# Altium footprint library IND.PcbLib: 20 footprints (part 1 of 2)
Each footprint in its own frame and in the unit in brackets; x right, y up, seen from the top. Pads: shape width x height; smd on the part's side, far side on the other; paste and mask are expansions set on the pad; w line width, h text height; cw(c..) or ccw(c..) is an arc to the next point about the centre after c.
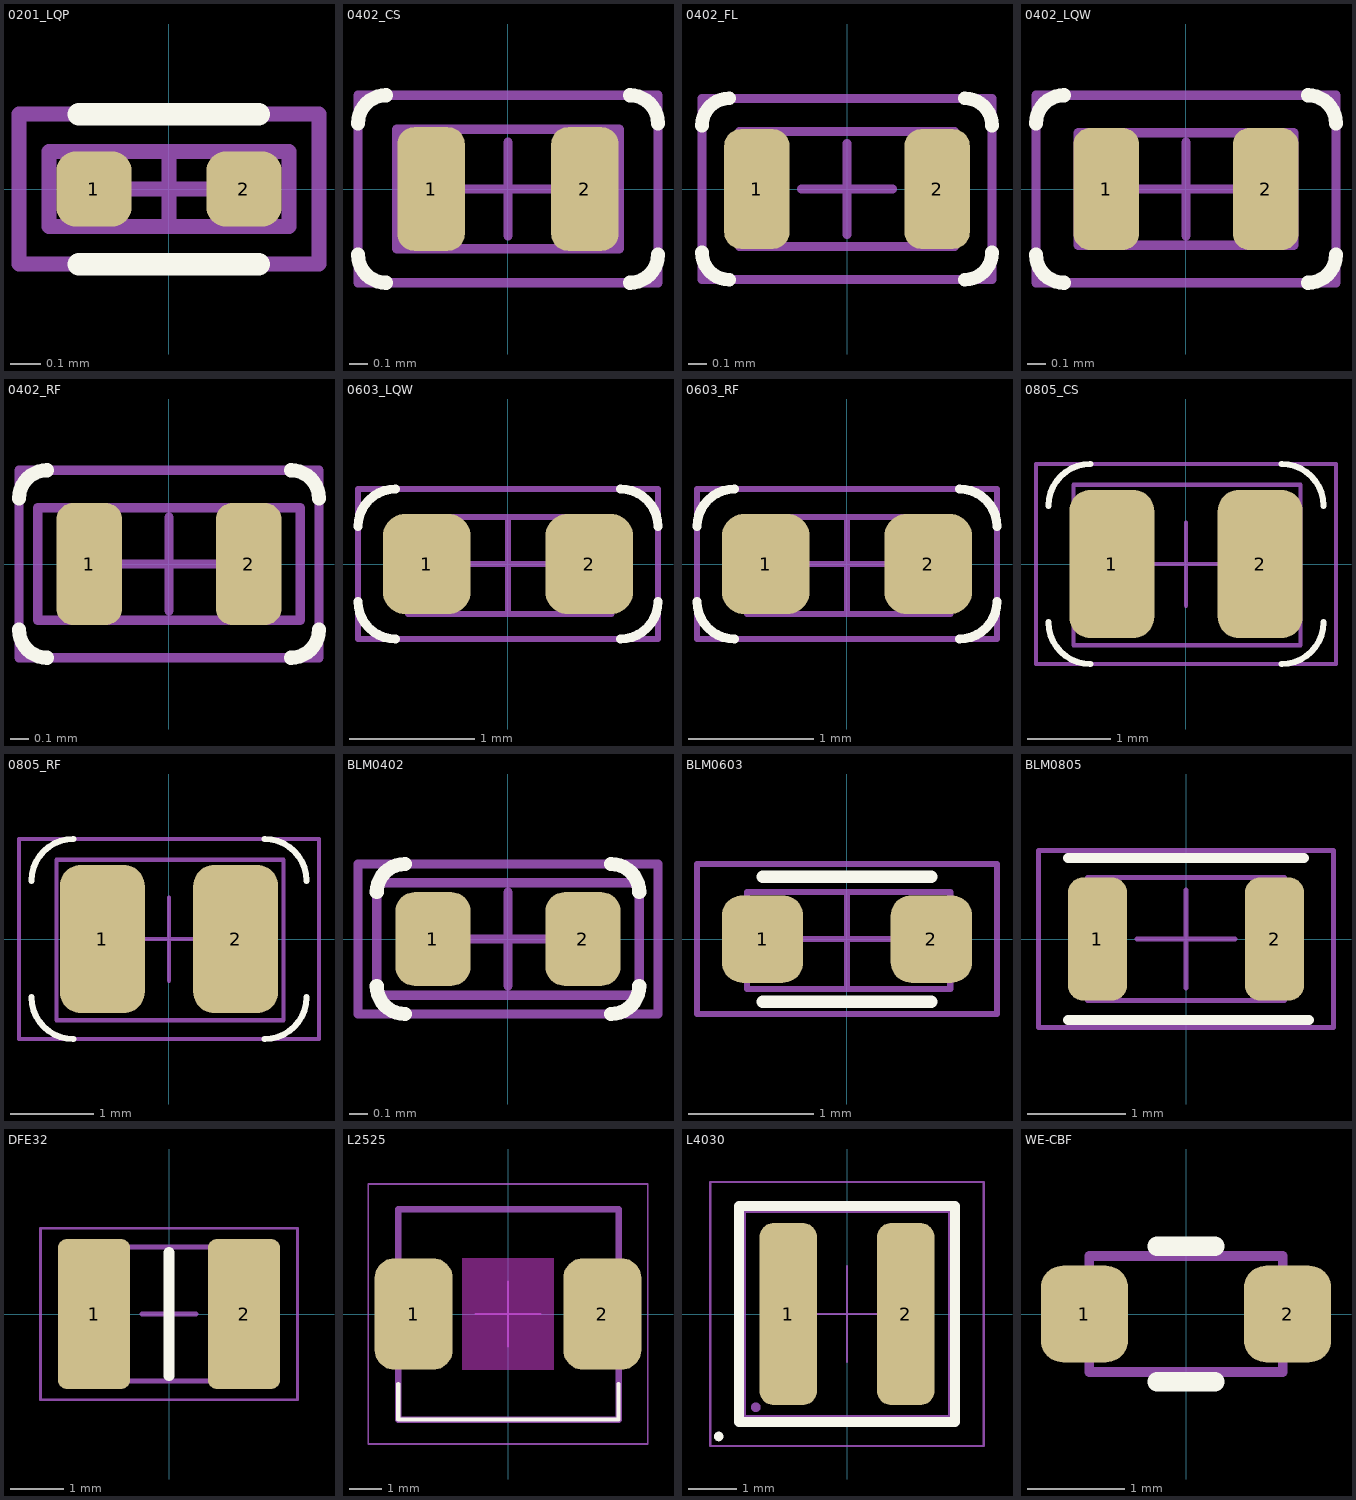
[diagram p0: the footprints below, top view; thin cyan lines are the x and y axes]

## 0201_LQP [mm]
pads (2):
  rrect50% 0.25x0.25 smd paste-0.05: 1(-0.25,0) 2(0.25,0)
Top Overlay:
  lines w0.075: -0.3,-0.25 0.3,-0.25 ; -0.3,0.25 0.3,0.25
Top Assembly:
  lines w0.05: -0.4,-0.125 0.4,-0.125 0.4,0.125 -0.4,0.125 -0.4,-0.125
  text ".Designator" at -0.5,-0.033 h0.1
Top Courtyard:
  lines w0.05: -0.125,0 0.125,0 ; 0,-0.125 0,0.125 ; -0.5,-0.25 0.5,-0.25 0.5,0.25 -0.5,0.25 -0.5,-0.25
3D body "LQP03HQ1N5C02D.STEP": height 0.42, standoff 0, extent -0.3,-0.15 0.3,0.15

## 0402_CS [mm]
pads (2):
  rrect50% 0.36x0.66 smd: 1(-0.41,0) 2(0.41,0)
Top Overlay:
  lines w0.075: -0.8,-0.35 ccw(c-0.65,-0.35) -0.65,-0.5 ; -0.8,0.35 cw(c-0.65,0.35) -0.65,0.5 ; 0.65,-0.5 ccw(c0.65,-0.35) 0.8,-0.35 ; 0.65,0.5 cw(c0.65,0.35) 0.8,0.35
Top Assembly:
  text ".Designator" at -1.5,-0.1 h0.3
Top 3D Body (Mech13):
  lines w0.05: -0.593,-0.318 0.593,-0.318 0.593,0.318 -0.593,0.318 -0.593,-0.318
Top Courtyard:
  lines w0.05: -0.25,0 0.25,0 ; 0,-0.25 0,0.25 ; -0.8,-0.5 0.8,-0.5 0.8,0.5 -0.8,0.5 -0.8,-0.5
3D body "Coilcraft-0402CS.STEP": height 0.65, standoff -0.01, extent -0.593,-0.318 0.593,0.318

## 0402_FL [mm]
pads (2):
  rrect50% 0.36x0.66 smd: 1(-0.497,0) 2(0.497,0)
Top Overlay:
  lines w0.075: -0.8,-0.35 ccw(c-0.65,-0.35) -0.65,-0.5 ; -0.8,0.35 cw(c-0.65,0.35) -0.65,0.5 ; 0.65,-0.5 ccw(c0.65,-0.35) 0.8,-0.35 ; 0.65,0.5 cw(c0.65,0.35) 0.8,0.35
Top Assembly:
  lines w0.05: -0.593,-0.318 0.593,-0.318 0.593,0.318 -0.593,0.318 -0.593,-0.318
  text ".Designator" at -1.5,-0.1 h0.3
Top Courtyard:
  lines w0.05: -0.25,0 0.25,0 ; 0,-0.25 0,0.25 ; -0.8,-0.5 0.8,-0.5 0.8,0.5 -0.8,0.5 -0.8,-0.5
3D body "Coilcraft-0402FL.STEP": height 0.53, standoff -0.02, extent -0.556,-0.36 0.556,0.36

## 0402_LQW [mm]
pads (2):
  rrect50% 0.35x0.65 smd: 1(-0.425,0) 2(0.425,0)
Top Overlay:
  lines w0.075: -0.8,-0.35 ccw(c-0.65,-0.35) -0.65,-0.5 ; -0.8,0.35 cw(c-0.65,0.35) -0.65,0.5 ; 0.65,-0.5 ccw(c0.65,-0.35) 0.8,-0.35 ; 0.65,0.5 cw(c0.65,0.35) 0.8,0.35
Top Assembly:
  lines w0.05: -0.574,-0.299 0.574,-0.299 0.574,0.299 -0.574,0.299 -0.574,-0.299
  text ".Designator" at -1.5,-0.1 h0.3
Top Courtyard:
  lines w0.05: -0.25,0 0.25,0 ; 0,-0.25 0,0.25 ; -0.8,-0.5 0.8,-0.5 0.8,0.5 -0.8,0.5 -0.8,-0.5
3D body "LQW15AN2N3B80D.STEP": height 0.6, standoff 0, extent -0.5,-0.3 0.5,0.3

## 0402_RF [mm]
pads (2):
  rrect50% 0.35x0.65 smd: 1(-0.425,0) 2(0.425,0)
Top Overlay:
  lines w0.075: -0.8,-0.35 ccw(c-0.65,-0.35) -0.65,-0.5 ; -0.8,0.35 cw(c-0.65,0.35) -0.65,0.5 ; 0.65,-0.5 ccw(c0.65,-0.35) 0.8,-0.35 ; 0.65,0.5 cw(c0.65,0.35) 0.8,0.35
Top Assembly:
  lines w0.05: -0.701,-0.3 0.701,-0.3 0.701,0.3 -0.701,0.3 -0.701,-0.3
  text ".Designator" at -1.5,-0.1 h0.3
Top Courtyard:
  lines w0.05: -0.25,0 0.25,0 ; 0,-0.25 0,0.25 ; -0.8,-0.5 0.8,-0.5 0.8,0.5 -0.8,0.5 -0.8,-0.5
3D body "LQW15AN2N3B80D.STEP": height 0.6, standoff 0, extent -0.5,-0.3 0.5,0.3

## 0603_LQW [mm]
height 0.45
pads (2):
  rrect50% 0.7x0.8 smd: 1(-0.65,0) 2(0.65,0)
Top Overlay:
  lines w0.075: -1.2,-0.3 ccw(c-0.9,-0.3) -0.9,-0.6 ; -1.2,0.3 cw(c-0.9,0.3) -0.9,0.6 ; 0.9,-0.6 ccw(c0.9,-0.3) 1.2,-0.3 ; 0.9,0.6 cw(c0.9,0.3) 1.2,0.3
Top Assembly:
  lines w0.05: -0.8,-0.4 -0.8,0.375 0.825,0.375 0.825,-0.4 -0.8,-0.4
  text ".Designator" at -1.5,-0.1 h0.3
Top Courtyard:
  lines w0.05: -0.375,0 0.375,0 ; 0,-0.375 0,0.375 ; -1.2,-0.6 1.2,-0.6 1.2,0.6 -1.2,0.6 -1.2,-0.6
3D body "LQW18CNR33J00D.STEP": height 0.95, standoff 0, extent -0.8,-0.4 0.8,0.4

## 0603_RF [mm]
height 0.45
pads (2):
  rrect50% 0.7x0.8 smd: 1(-0.65,0) 2(0.65,0)
Top Overlay:
  lines w0.075: -1.2,-0.3 ccw(c-0.9,-0.3) -0.9,-0.6 ; -1.2,0.3 cw(c-0.9,0.3) -0.9,0.6 ; 0.9,-0.6 ccw(c0.9,-0.3) 1.2,-0.3 ; 0.9,0.6 cw(c0.9,0.3) 1.2,0.3
Top Assembly:
  lines w0.05: -0.8,-0.4 0.825,-0.4 0.825,0.375 -0.8,0.375 -0.8,-0.4
  text ".Designator" at -0.674,-0.068 h0.3
Top Courtyard:
  lines w0.05: -0.375,0 0.375,0 ; 0,-0.375 0,0.375 ; -1.2,-0.6 1.2,-0.6 1.2,0.6 -1.2,0.6 -1.2,-0.6
3D body "LQW18CNR33J00D.STEP": height 0.95, standoff 0, extent -0.8,-0.4 0.8,0.4

## 0805_CS [mm]
height 0.45
pads (2):
  rrect50% 1.02x1.78 smd: 1(-0.89,0) 2(0.89,0)
Top Overlay:
  lines w0.075: -1.65,-0.7 ccw(c-1.15,-0.7) -1.15,-1.2 ; -1.65,0.7 cw(c-1.15,0.7) -1.15,1.2 ; 1.15,-1.2 ccw(c1.15,-0.7) 1.65,-0.7 ; 1.15,1.2 cw(c1.15,0.7) 1.65,0.7
Top Assembly:
  lines w0.05: -1.35,-0.975 -1.35,0.95 1.375,0.95 1.375,-0.975 -1.35,-0.975
  text ".Designator" at -0.674,-0.068 h0.3
Top Courtyard:
  lines w0.05: -0.5,0 0.5,0 ; 0,-0.5 0,0.5 ; -1.8,-1.2 1.8,-1.2 1.8,1.2 -1.8,1.2 -1.8,-1.2
3D body "Coilcraft-0805CS.STEP": height 1.51, standoff -0.01, extent -1.145,-0.863 1.145,0.863

## 0805_RF [mm]
height 0.45
pads (2):
  rrect50% 1.02x1.78 smd: 1(-0.8,0) 2(0.8,0)
Top Overlay:
  lines w0.075: -1.65,-0.7 ccw(c-1.15,-0.7) -1.15,-1.2 ; -1.65,0.7 cw(c-1.15,0.7) -1.15,1.2 ; 1.15,-1.2 ccw(c1.15,-0.7) 1.65,-0.7 ; 1.15,1.2 cw(c1.15,0.7) 1.65,0.7
Top Assembly:
  lines w0.05: -1.35,-0.975 1.375,-0.975 1.375,0.95 -1.35,0.95 -1.35,-0.975
  text ".Designator" at -0.674,-0.068 h0.3
Top Courtyard:
  lines w0.05: -0.5,0 0.5,0 ; 0,-0.5 0,0.5 ; -1.8,-1.2 1.8,-1.2 1.8,1.2 -1.8,1.2 -1.8,-1.2
3D body "0805CS-241XGLB.STEP": height 1.6, standoff 0, extent -1.143,-0.953 1.143,0.953

## BLM0402 [mm]
pads (2):
  rrect50% 0.4x0.5 smd paste+0: 1(-0.4,0) 2(0.4,0)
Top Overlay:
  lines w0.075: -0.7,-0.25 ccw(c-0.55,-0.25) -0.55,-0.4 ; -0.7,0.25 cw(c-0.55,0.25) -0.55,0.4 ; 0.55,-0.4 ccw(c0.55,-0.25) 0.7,-0.25 ; 0.55,0.4 cw(c0.55,0.25) 0.7,0.25
Top Assembly:
  lines w0.05: -0.701,-0.3 0.701,-0.3 0.701,0.3 -0.701,0.3 -0.701,-0.3
  text ".Designator" at -0.674,-0.068 h0.3
Top Courtyard:
  lines w0.05: -0.25,0 0.25,0 ; 0,-0.25 0,0.25 ; -0.8,-0.4 0.8,-0.4 0.8,0.4 -0.8,0.4 -0.8,-0.4
3D body "BLM15BB470SN1D.STEP": height 0.55, standoff 0, extent -0.5,-0.25 0.5,0.25

## BLM0603 [mm]
height 0.45
pads (2):
  rrect50% 0.65x0.7 smd: 1(-0.675,0) 2(0.675,0)
Top Overlay:
  lines w0.1: -0.675,-0.5 0.675,-0.5 ; -0.675,0.5 0.675,0.5
Top Assembly:
  lines w0.05: -0.8,-0.4 0.825,-0.4 0.825,0.375 -0.8,0.375 -0.8,-0.4
  text ".Designator" at -0.674,-0.068 h0.3
Top Courtyard:
  lines w0.05: -0.375,0 0.375,0 ; 0,-0.375 0,0.375 ; -1.2,-0.6 1.2,-0.6 1.2,0.6 -1.2,0.6 -1.2,-0.6
3D body "BLM18SG121TN1J.STEP": height 0.65, standoff 0, extent -0.8,-0.4 0.8,0.4

## BLM0805 [mm]
height 0.45
pads (2):
  rrect50% 0.6x1.25 smd: 1(-0.9,0) 2(0.9,0)
Top Overlay:
  lines w0.1: -1.2,-0.825 1.25,-0.825 ; -1.2,0.825 1.2,0.825
Top Assembly:
  lines w0.05: -1,-0.625 1,-0.625 1,0.625 -1,0.625 -1,-0.625
  text ".Designator" at -0.674,-0.068 h0.3
Top Courtyard:
  lines w0.05: -0.5,0 0.5,0 ; 0,-0.5 0,0.5 ; -1.5,-0.9 1.5,-0.9 1.5,0.9 -1.5,0.9 -1.5,-0.9
3D body "BLM21AG471SN1D.STEP": height 1.05, standoff 0, extent -1,-0.625 1,0.625

## DFE32 [mm]
pads (2):
  rrect25% 1.35x2.8 smd: 1(-1.4,0) 2(1.4,0)
Top Overlay:
  lines w0.2: 0,-1.15 0,1.15
Top Assembly:
  lines w0.1: -1.6,-1.25 -1.6,1.25 1.6,1.25 1.6,-1.25 -1.6,-1.25
  text ".Designator" at -2.252,-0.226 h1
Top Courtyard:
  lines w0.05: -2.4,-1.6 2.4,-1.6 2.4,1.6 -2.4,1.6 -2.4,-1.6
  lines w0.1: -0.5,0 0,0 ; 0,-0.5 0,0 ; 0,0.5 0,0 ; 0.5,0 0,0
3D body "DFE32CAHR47MR0L.stp": height 2, standoff 0, extent -1.589,-1.256 1.611,1.244

## L2525 [mm]
pads (2):
  rrect50% 2.4x3.429 smd: 1(-2.9,0) 2(2.9,0)
Top Layer keep-out:
  region: -1.4,1.714 -1.4,-1.714 1.4,-1.714 1.4,1.714
Top Overlay:
  lines w0.127: -3.375,-2.15 -3.375,-3.25 3.4,-3.25 3.4,-2.15
Top Assembly:
  lines w0.2: -3.375,-3.25 -3.375,3.225 3.4,3.225 3.4,-3.25 -3.375,-3.25
  text ".Designator" at -3.378,-0.339 h1.5
Top Courtyard:
  lines w0.05: -1,0 1,0 ; 0,-1 0,1 ; -4.3,-4 4.3,-4 4.3,4 -4.3,4 -4.3,-4
3D body "IHLP2525CZER100M01.STEP": height 3, standoff 0, extent -3.43,-3.235 3.43,3.235

## L4030 [mm]
pads (2):
  rrect50% 1.2x3.8 smd: 1(-1.225,0) 2(1.225,0)
Top Overlay:
  circle w0.1: c-2.672,-2.551 r0.05
  lines w0.2: -2.25,-2.25 2.25,-2.25 2.25,2.25 -2.25,2.25 -2.25,-2.25
Top Assembly:
  circle w0.1: c-1.9,-1.942 r0.05
  lines w0.1: -2.15,-2.15 2.15,-2.15 ; -2.15,-2.15 -2.15,2.15 ; -2.15,-2.15 2.15,-2.15 ; -2.15,-2.15 -2.15,2.15 ; -2.15,2.15 2.15,2.15 ; -2.15,2.15 2.15,2.15 ; 2.15,-2.15 2.15,2.15 ; 2.15,-2.15 2.15,2.15
  text ".Designator" at -2.499,-0.167 h0.5
Top Courtyard:
  lines w0.05: -1,0 1,0 ; 0,-1 0,1 ; -2.85,-2.75 -2.85,2.75 2.85,2.75 2.85,-2.75 -2.85,-2.75
3D body "74439324015.stp": height 3, standoff 0, extent -2.15,-2.15 2.15,2.15

## WE-CBF [mm]
pads (2):
  rrect50% 0.9x1 smd: 1(-1.05,0) 2(1.05,0)
Top Overlay:
  lines w0.2: -0.3,-0.7 0.3,-0.7 ; -0.3,0.7 0.3,0.7
Top Assembly:
  lines w0.1: -1,-0.6 1,-0.6 1,0.6 -1,0.6 -1,-0.6
  text ".Designator" at -1.578,-0.158 h0.7
3D body "WE-CBF_0805_CBF+%28rev1%29.stp": height 0.9, standoff 0, extent -1,-0.6 1,0.6